# EAGLE library part TFT_LCD_3P2 (library Project_02(Pokey_Clicker))
Adafruit 3.2" TFT LCD Breakout Board+ 4-Wire Resistive Touchscreen
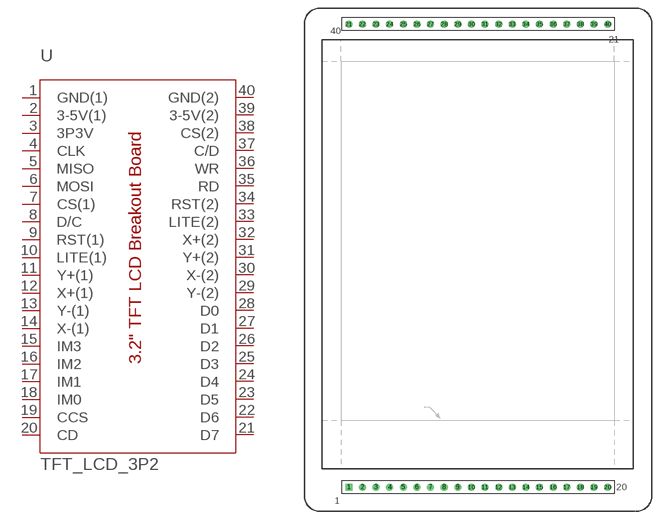
[diagram p1: symbol with the pads of TFT_LCD_3P2; footprint TFT_LCD_3P2]

Designator prefix U

## TFT_LCD_3P2  [TFT_LCD_3P2]
1  GND(1)
2  3-5V(1)
3  3P3V
4  CLK
5  MISO
6  MOSI
7  CS(1)
8  D/C
9  RST(1)
10  LITE(1)
11  Y+(1)
12  X+(1)
13  Y-(1)
14  X-(1)
15  IM3
16  IM2
17  IM1
18  IM0
19  CCS
20  CD
21  D7
22  D6
23  D5
24  D4
25  D3
26  D2
27  D1
28  D0
29  Y-(2)
30  X-(2)
31  Y+(2)
32  X+(2)
33  LITE(2)
34  RST(2)
35  RD
36  WR
37  C/D
38  CS(2)
39  3-5V(2)
40  GND(2)

## Footprint TFT_LCD_3P2 (pad centres in mm)
drill 0.8 square: 1 3.81,6.35
drill 0.8: 2 6.35,6.35; 3 8.89,6.35; 4 11.43,6.35; 5 13.97,6.35; 6 16.51,6.35; 7 19.05,6.35; 8 21.59,6.35; 9 24.13,6.35; 10 26.67,6.35; 11 29.21,6.35; 12 31.75,6.35; 13 34.29,6.35; 14 36.83,6.35; 15 39.37,6.35; 16 41.91,6.35; 17 44.45,6.35; 18 46.99,6.35; 19 49.53,6.35; 20 52.07,6.35; 21 3.81,92.71; 22 6.35,92.71; 23 8.89,92.71; 24 11.43,92.71; 25 13.97,92.71; 26 16.51,92.71; 27 19.05,92.71; 28 21.59,92.71; 29 24.13,92.71; 30 26.67,92.71; 31 29.21,92.71; 32 31.75,92.71; 33 34.29,92.71; 34 36.83,92.71; 35 39.37,92.71; 36 41.91,92.71; 37 44.45,92.71; 38 46.99,92.71; 39 49.53,92.71; 40 52.07,92.71